# EAGLE library part ESP12EF_ADAPTOR (library air_quality_monitor)
ESP-12E/F Adaptor designed by IFFPC.
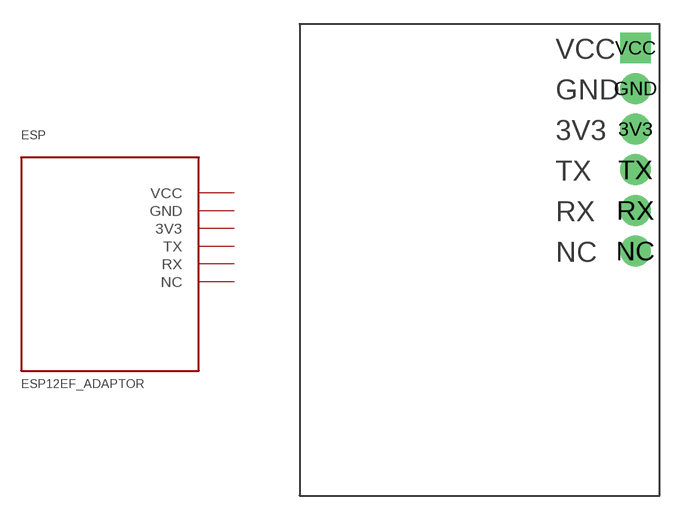
[diagram p3: symbol with the pads of ESP12EF_ADAPTOR; footprint ESP12EF_ADAPTOR]

Designator prefix ESP

## ESP12EF_ADAPTOR  [ESP12EF_ADAPTOR]
3V3  3V3
GND  GND
NC  NC
RX  RX
TX  TX
VCC  VCC

## Footprint ESP12EF_ADAPTOR (pad centres in mm)
drill 1.1 pad 1.93: 3V3 21,22.92; GND 21,25.46; NC 21,15.3; RX 21,17.84; TX 21,20.38
drill 1.1 pad 1.93 square: VCC 21,28